# Altium schematic symbol library Header 2x64.SchLib: 1 symbol
Pins are listed as number, name and electrical type; pins without a type are passive.

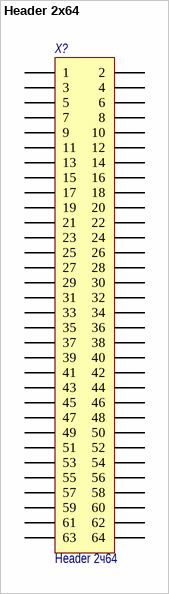
[diagram p0: symbol Header 2x64]

## Header 2x64
designator X?  Наименование: Header 2ч64  (hidden comment: Header 2x64)
Header, 64-Pin, Dual row; Потребление: 0.0Вт; Назначение: Header, 64-Pin, Dual row
footprint 71436-2 (IEEE 1368.1 Mezzanine Plug Connector)
footprint 71436-0 (IEEE 1368.1 Mezzanine Plug Connector)
pins: 1, 2, 3, 4, 5, 6, 7, 8, 9, 10, 11, 12, 13, 14, 15, 16, 17, 18, 19, 20, 21, 22, 23, 24, 25, 26, 27, 28, 29, 30, 31, 32, 33, 34, 35, 36, 37, 38, 39, 40, 41, 42, 43, 44, 45, 46, 47, 48, 49, 50, 51, 52, 53, 54, 55, 56, 57, 58, 59, 60, 61, 62, 63, 64